# EAGLE library part SN74LVC1G123 (library texas-instruments)
Single Retriggerable Monostable Multivibrator With Schmitt-Trigger Inputs The SN74LVC1G123 is a single retriggerable monostable multivibrator designed for 1.65-V to 5.5-V VCC operation. This monostable multivibrator features output pulse-duration control by three methods. In the first method, the A input is low, and the B input goes high. In the second method, the B input is high, and the A input goes low. In the third method, the A input is low, the B input is high, and the clear (CLR) input goes high. The output pulse duration is programmed by selecting external resistance and capacitance values. The external timing capacitor must be connected between Cext and Rext/Cext (positive) and an external resistor connected between Rext/Cext and VCC. To obtain variable pulse durations, connect an external variable resistance between Rext/Cext and VCC. The output pulse duration also can be reduced by taking CLR low.
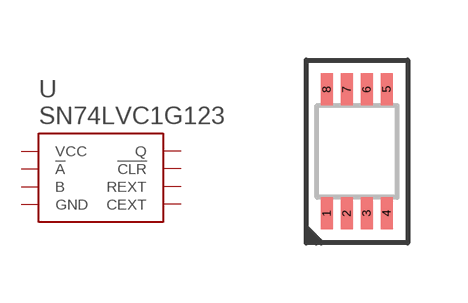
[diagram p5: symbol with the pads of R-PDSO-G8; footprint R-PDSO-G8]

Designator prefix U

## SN74LVC1G123  [R-PDSO-G8]
1  !A
2  B
3  !CLR
4  GND
5  Q
6  CEXT
7  REXT
8  VCC

## Footprint R-PDSO-G8 (pad centres in mm)
smd 0.3 x 0.8: 1 -0.75,-1.55; 2 -0.25,-1.55; 3 0.25,-1.55; 4 0.75,-1.55; 5 0.75,1.55; 6 0.25,1.55; 7 -0.25,1.55; 8 -0.75,1.55